# EAGLE library part ATTINY85-20SU (library LED_Matrix)
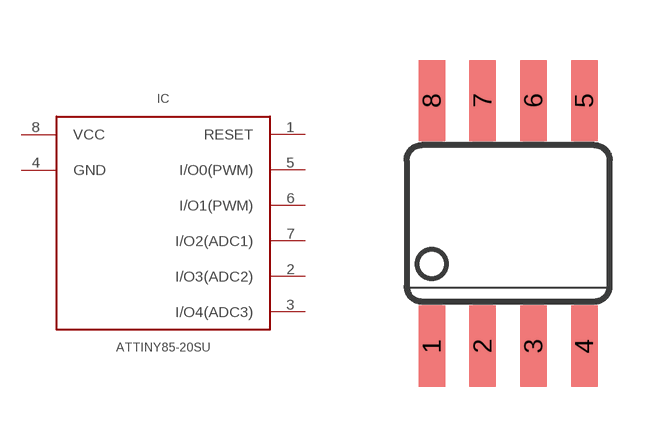
[diagram p3: symbol with the pads of SO08; footprint SO08]

Designator prefix IC

## ATTINY85-20SU  [SO08]
1  RESET
2  I/O3(ADC2)
3  I/O4(ADC3)
4  GND
5  I/O0(PWM)
6  I/O1(PWM)
7  I/O2(ADC1)
8  VCC

## Footprint SO08 (pad centres in mm)
Small Outline Package SO-8, CASE 751
smd 0.66 x 2.032: 1 -1.905,-3.073; 2 -0.635,-3.073; 3 0.635,-3.073; 4 1.905,-3.073; 5 1.905,3.073; 6 0.635,3.073; 7 -0.635,3.073; 8 -1.905,3.073